# Altium footprint library HANDS-FREE-PCBLIB-V2.0.PcbLib: 236 footprints (part 3 of 16)
Each footprint in its own frame and in the unit in brackets; x right, y up, seen from the top. Pads: shape width x height; smd on the part's side, far side on the other; paste and mask are expansions set on the pad; w line width, h text height; cw(c..) or ccw(c..) is an arc to the next point about the centre after c.
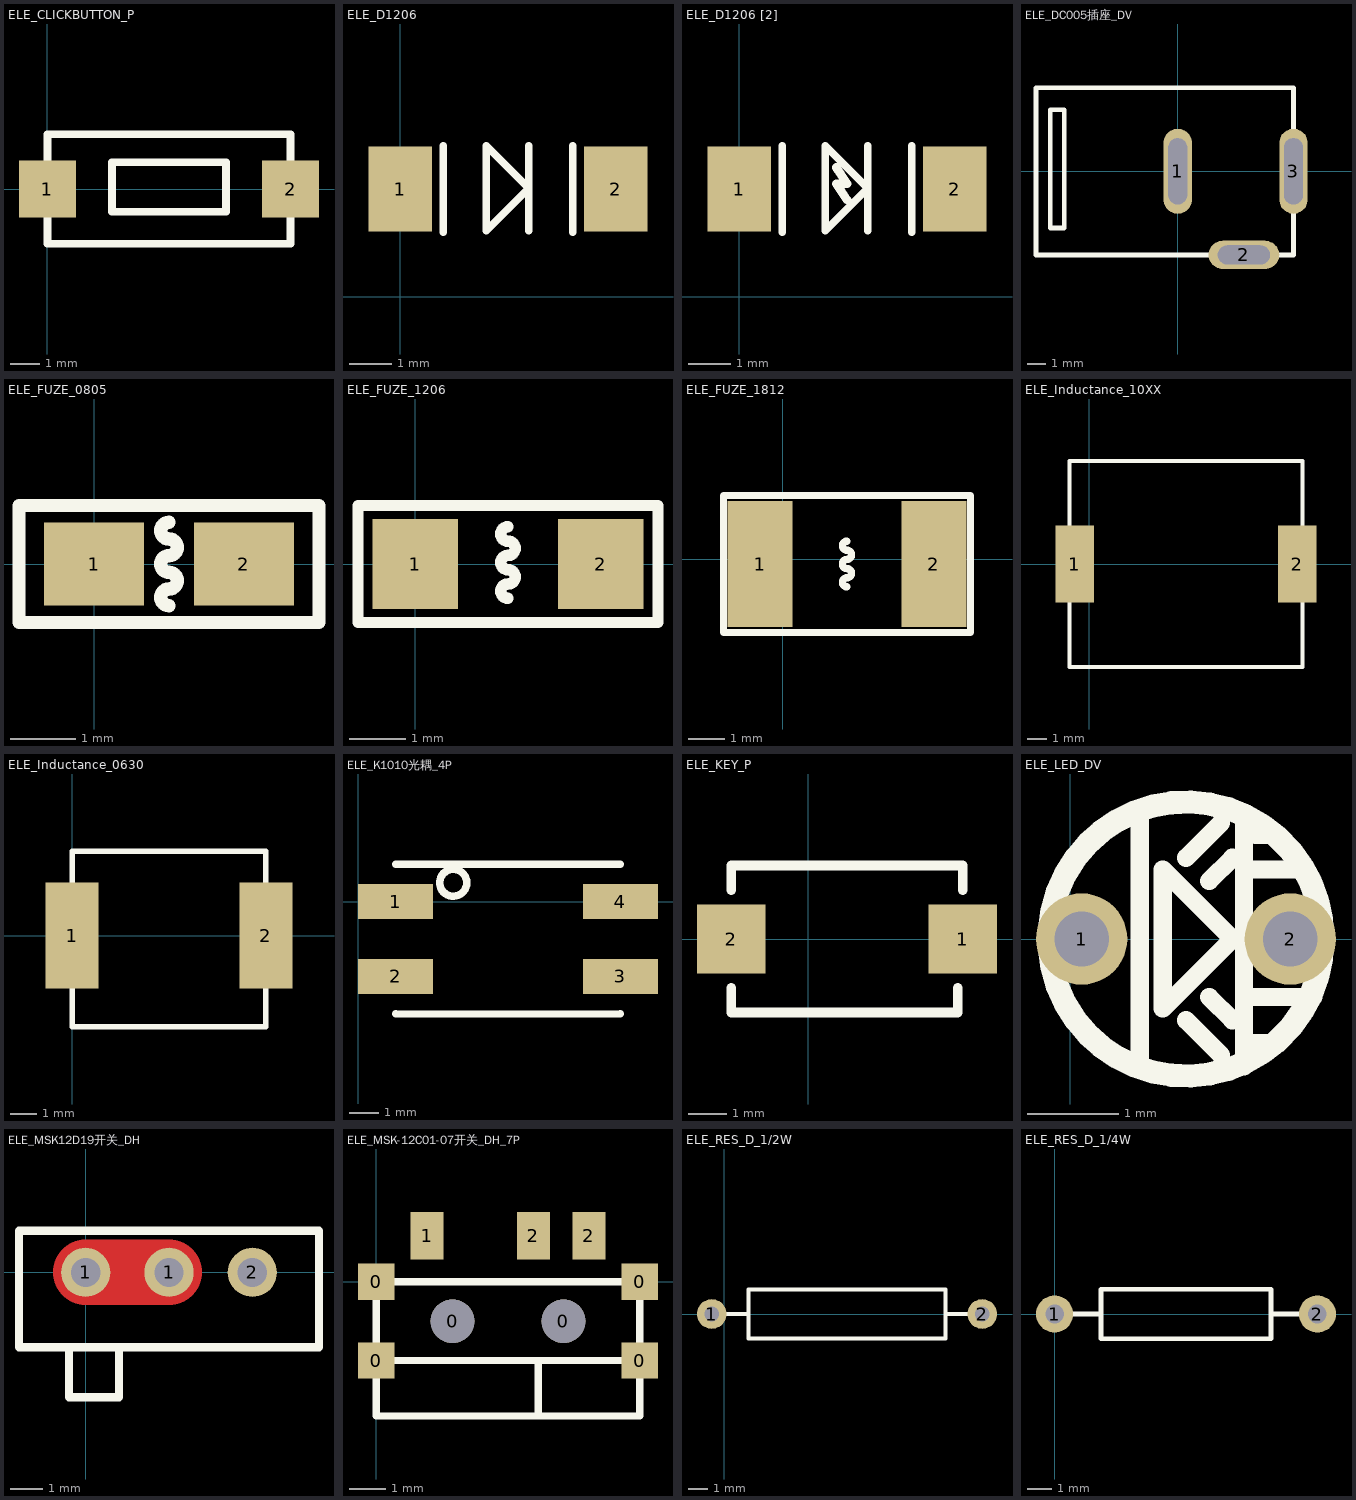
[diagram p2: the footprints below, top view; thin cyan lines are the x and y axes]

## ELE_CLICKBUTTON_P [mil]
pads (2):
  rect 75x75 smd: 1(0,0) 2(320,0)
Top Overlay:
  lines w10: 0,0 0,72 ; 0,72 0,-72 320,-72 320,72 240,72 80,72 0,72 ; 85,-30 235,-30 235,35 85,35 85,-30

## ELE_D1206 [mm]
height 1.1
pads (2):
  rect 1.5x2 smd: 1(0,2.54) 2(5.08,2.54)
Top Overlay:
  lines w0.178: 1.016,1.524 1.016,3.556 ; 3.032,1.556 3.032,3.556 ; 4.064,1.524 4.064,3.556 ; 2.032,1.556 2.032,3.556 3.032,2.556 2.032,1.556

## ELE_D1206 [2] [mm]
height 1.1
pads (2):
  rect 1.5x2 smd: 1(0,2.54) 2(5.08,2.54)
Top Overlay:
  lines w0.178: 1.016,1.524 1.016,3.556 ; 3.032,1.556 3.032,3.556 ; 4.064,1.524 4.064,3.556 ; 2.032,1.556 2.032,3.556 3.032,2.556 2.032,1.556
  lines w0.203: 2.286,3.048 2.54,2.667 2.286,2.667 2.54,2.286

## ELE_DC005插座_DV [mil]
pads (3):
  oval 60x180 hole 40 slot 140 at 90 deg: 1(0,0) 3(245,0)
  oval 150x60 hole 40 slot 110 at 0 deg: 2(140,-177)
Top Overlay:
  lines w10: -300,-177 -300,177 55,177 245,177 245,-177 -300,-177 ; -270,-120 -240,-120 -240,130 -270,130 -270,-120

## ELE_FUZE_0805 [mil]
pads (2):
  rect 60x50 smd: 1(0,0) 2(90,0)
Top Overlay:
  lines w7.87: -45,-35 135,-35 135,35 -45,35 -45,-35
  lines w8: 45,-25 cw(c45,-20) 40,-20 cw(c45,-20) 45,-15 ccw(c45,-10) 50,-10 ccw(c45,-10) 45,-5 cw(c45,0) 40,0 cw(c45,0) 45,5 ccw(c45,10) 50,10 ccw(c45,10) 45,15 cw(c45,20) 40,20 cw(c45,20) 45,25

## ELE_FUZE_1206 [mil]
pads (2):
  rect 60x62.99 smd: 1(0,0) 2(130,0)
Top Overlay:
  lines w7.87: -40,-41 170,-41 170,41 -40,41 -40,-41
  lines w8: 65,-24 cw(c65,-19) 60,-19 cw(c65,-19) 65,-14 ccw(c65,-9) 70,-9 ccw(c65,-9) 65,-4 cw(c65,1) 60,1 cw(c65,1) 65,6 ccw(c65,11) 70,11 ccw(c65,11) 65,16 cw(c65,21) 60,21 cw(c65,21) 65,26

## ELE_FUZE_1812 [mm]
pads (2):
  rect 1.8x3.5 smd: 1(-0.635,-0.127) 2(4.191,-0.127)
Top Overlay:
  lines w0.2: -1.651,-2.032 -1.651,1.778 5.207,1.778 5.207,-2.032 -1.651,-2.032
  lines w0.203: 1.778,-0.762 cw(c1.778,-0.635) 1.651,-0.635 cw(c1.778,-0.635) 1.778,-0.508 ccw(c1.778,-0.381) 1.905,-0.381 ccw(c1.778,-0.381) 1.778,-0.254 cw(c1.778,-0.127) 1.651,-0.127 cw(c1.778,-0.127) 1.778,0 ccw(c1.778,0.127) 1.905,0.127 ccw(c1.778,0.127) 1.778,0.254 cw(c1.778,0.381) 1.651,0.381 cw(c1.778,0.381) 1.778,0.508

## ELE_Inductance_10XX [mm]
pads (2):
  rect 2x4 smd: 1(-0.762,0) 2(10.795,0)
Top Overlay:
  lines w0.2: -1.016,-5.334 -1.016,5.334 ; 11.049,-5.334 11.049,5.334
  lines w0.203: -1.016,-5.334 11.049,-5.334 ; -1.016,5.334 11.049,5.334

## ELE_Inductance_0630 [mm]
pads (2):
  rect 2x4 smd: 1(0,0) 2(7.3,0)
Top Overlay:
  lines w0.2: 0,-3.429 7.3,-3.429 ; 0,3.171 7.3,3.171
  lines w0.203: 0,-3.429 0,3.171 ; 7.3,-3.429 7.3,3.171

## ELE_K1010光耦_4P [mm]
pads (4):
  rect 2.54x1.2 smd: 1(1.27,0) 2(1.27,-2.54) 3(8.89,-2.54) 4(8.89,0)
Top Overlay:
  circle w0.254: c3.225,0.635 r0.458
  lines w0.254: 1.27,-3.81 8.89,-3.81 ; 1.27,1.27 8.89,1.27

## ELE_KEY_P [mil]
pads (2):
  rect 70x70 smd: 1(157.48,0) 2(-78.74,0)
Top Overlay:
  lines w10: -78.74,-50 -78.74,-75 152.48,-75 152.48,-50 ; -78.74,50 -78.74,75 157.48,75 157.48,50

## ELE_LED_DV [mm] "Connector; Header; 2 Position"
pads (2):
  round 1 hole 0.6: 1(0.127,0) 2(2.413,0)
Top Overlay:
  circle w0.254: c1.27,0 r1.5
  lines w0.2: 0.762,-1.397 0.762,1.397 ; 1.27,-0.889 1.651,-1.27 ; 1.27,0.889 1.651,1.27 ; 1.524,-0.635 1.778,-0.889 ; 1.524,0.635 1.778,0.889 ; 1.905,-1.397 1.905,1.27 ; 1.905,-1.143 2.286,-1.143 ; 1.905,-0.635 2.667,-0.635 ; 1.905,0.762 2.54,0.762 ; 2.032,1.143 2.159,1.143 ; 1.016,-0.762 1.016,0.762 1.778,0 1.016,-0.762

## ELE_MSK12D19开关_DH [mm]
pads (3):
  round 1.5 hole 0.889: 1(0,0) 1(2.54,0) 2(5.08,0)
Top Layer:
  lines w2: 0,0 2.54,0
Top Overlay:
  lines w0.254: -2.032,-2.286 7.112,-2.286 7.112,1.27 -2.032,1.27 -2.032,-2.286 ; -0.508,-3.81 1.016,-3.81 1.016,-2.286 -0.508,-2.286 -0.508,-3.81

## ELE_MSK-12C01-07开关_DH_7P [mm]
pads (9):
  rect 1x1 smd: 0(0,-2.159) 0(0,0) 0(7.239,-2.159) 0(7.239,0)
  round 1.2 hole 1.2: 0(2.095,-1.079) 0(5.143,-1.079)
  rect 0.9x1.3 smd: 1(1.397,1.27) 2(4.318,1.27) 2(5.842,1.27)
Top Overlay:
  lines w0.203: 4.445,-3.683 4.445,-2.159 ; 0,-2.159 0,-3.683 7.239,-3.683 7.239,-2.159 ; 0,-2.159 7.239,-2.159 ; 0,-2.159 0,0 7.239,0 7.239,-2.159

## ELE_RES_D_1/2W [mil]
height 236.22
pads (2):
  round 60 hole 30: 1(-25,0) 2(525,0)
Top Overlay:
  lines w7.87: -25,0 50,0 ; 450,0 525,0 ; 50,-50 450,-50 450,50 50,50 50,-50

## ELE_RES_D_1/4W [mil]
height 157.48
pads (2):
  round 60 hole 30: 1(0,0) 2(425,0)
Top Overlay:
  lines w7.87: 0,0 75,0 75,40 ; 350,0 425,0 ; 75,40 350,40 350,-40 75,-40 75,40